# EAGLE library part LCD (library Zoli2_2015-02-22)
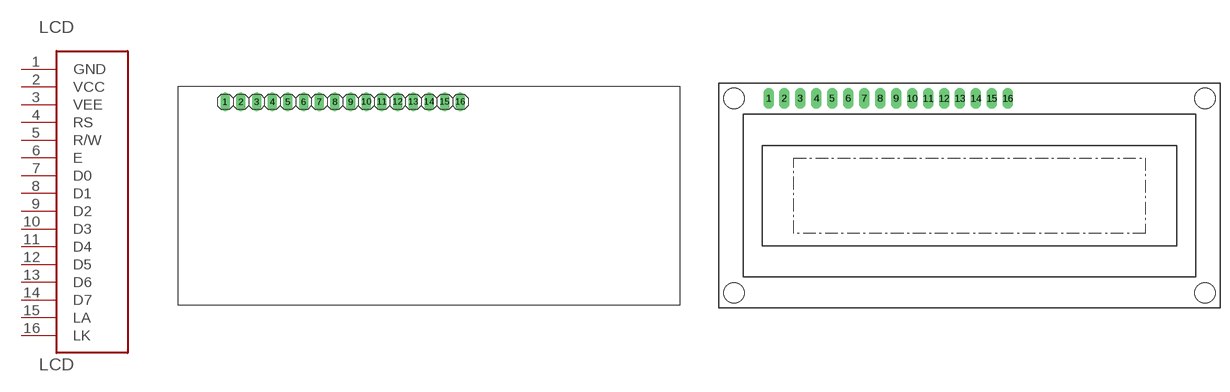
[diagram p6: symbol with the pads of LCD; footprints LCD, LCD2X16]

Designator prefix LCD

## LCD  [LCD]
1  GND  pwr
2  VCC  pwr
3  VEE  in
4  RS  in
5  R/W  in
6  E  in
7  D0
8  D1
9  D2
10  D3
11  D4
12  D5
13  D6
14  D7
15  LA  pas
16  LK  pas

## LCDEW16X2  [LCD2X16]
Pads as for LCD

## Footprint LCD (pad centres in mm)
drill 1.016 long: 1 -17.78,30.48; 2 -15.24,30.48; 3 -12.7,30.48; 4 -10.16,30.48; 5 -7.62,30.48; 6 -5.08,30.48; 7 -2.54,30.48; 8 0,30.48; 9 2.54,30.48; 10 5.08,30.48; 11 7.62,30.48; 12 10.16,30.48; 13 12.7,30.48; 14 15.24,30.48; 15 17.78,30.48; 16 20.32,30.48

## Footprint LCD2X16 (pad centres in mm)
Tuxgraphics LCD display 16x2 characters reflective, without background light Source: tuxgr_12x2_r2.pdf
drill 1 pad 1.676 long: 1 -32,15.5; 2 -29.46,15.5; 3 -26.92,15.5; 4 -24.38,15.5; 5 -21.84,15.5; 6 -19.3,15.5; 7 -16.76,15.5; 8 -14.22,15.5; 9 -11.68,15.5; 10 -9.14,15.5; 11 -6.6,15.5; 12 -4.06,15.5; 13 -1.52,15.5; 14 1.02,15.5; 15 3.56,15.5; 16 6.1,15.5
hole 3.2 at -37.5,-15.5
hole 3.2 at 37.5,-15.5
hole 3.2 at -37.5,15.5
hole 3.2 at 37.5,15.5